# EAGLE library part HEART_R_SENS (library heartRate_max30102)
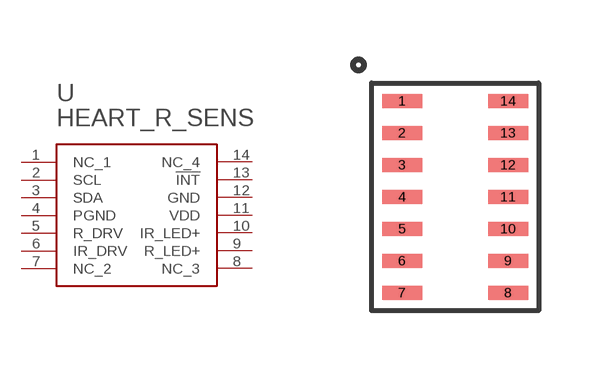
[diagram p0: symbol with the pads of MAX30102; footprint MAX30102]

Designator prefix -

## HEART_R_SENS (DESCRIPTION: IC SENSOR OXIMETER/HEARTRATE; LINK: https://www.digikey.com/product-detail/en/maxim-integrated/MAX30102EFD/MAX30102EFD-ND/6166869; MANUFACTURER: Maxim Integrated; MANUFACTURER_PART_NUM: MAX30102EFD+)  [MAX30102]
1  NC_1
2  SCL
3  SDA
4  PGND
5  R_DRV
6  IR_DRV
7  NC_2
8  NC_3
9  R_LED+
10  IR_LED+
11  VDD
12  GND
13  !INT
14  NC_4

## Footprint MAX30102 (pad centres in mm)
smd 1 x 0.35: 1 -1.325,2.4; 2 -1.325,1.6; 3 -1.325,0.8; 4 -1.325,0; 5 -1.325,-0.8; 6 -1.325,-1.6; 7 -1.325,-2.4; 8 1.325,-2.4; 9 1.325,-1.6; 10 1.325,-0.8; 11 1.325,0; 12 1.325,0.8; 13 1.325,1.6; 14 1.325,2.4